# EAGLE library part AG6200 (library kursach_final)
ag6200
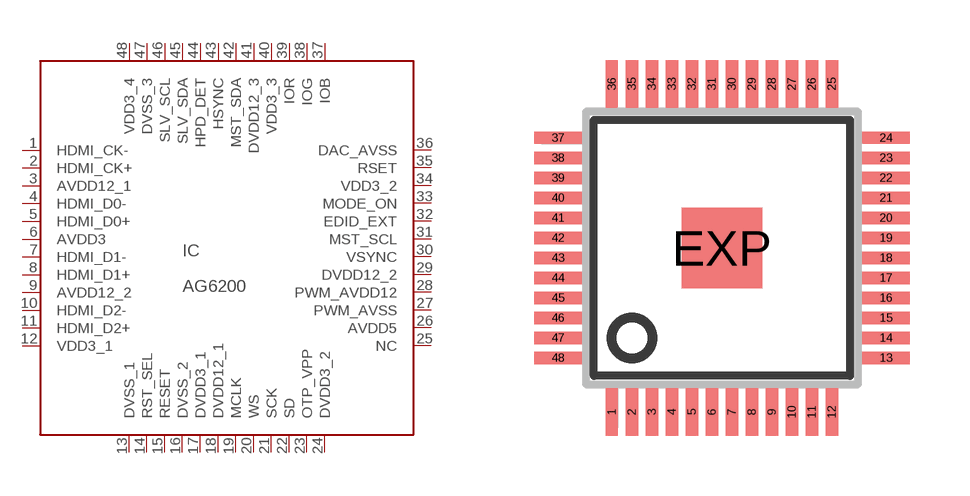
[diagram p7: symbol with the pads of PLCC-48; footprint PLCC-48]

Designator prefix IC

## AG6200 (MPN: AD1953YSTZRL7; OC_FARNELL: unknown; OC_NEWARK: 12M8457)  [PLCC-48]
1  HDMI_CK-  in
2  HDMI_CK+  in
3  AVDD12_1  pwr
4  HDMI_D0-  in
5  HDMI_D0+  in
6  AVDD3  pwr
7  HDMI_D1-  in
8  HDMI_D1+  in
9  AVDD12_2  pwr
10  HDMI_D2-  in
11  HDMI_D2+  in
12  VDD3_1  pwr
13  DVSS_1  pwr
14  RST_SEL  in
15  RESET  in
16  DVSS_2  pwr
17  DVDD3_1  pwr
18  DVDD12_1  pwr
19  MCLK  out
20  WS  out
21  SCK  out
22  SD  out
23  OTP_VPP  pwr
24  DVDD3_2  pwr
25  NC  nc
26  AVDD5  pwr
27  PWM_AVSS  pwr
28  PWM_AVDD12  pwr
29  DVDD12_2  pwr
30  VSYNC  out
31  MST_SCL
32  EDID_EXT  in
33  MODE_ON  in
34  VDD3_2  pwr
35  RSET  in
36  DAC_AVSS  pwr
37  IOB  out
38  IOG  out
39  IOR  out
40  VDD3_3  pwr
41  DVDD12_3  pwr
42  MST_SDA
43  HSYNC  out
44  HPD_DET
45  SLV_SDA
46  SLV_SCL
47  DVSS_3  pwr
48  VDD3_4  pwr

## Footprint PLCC-48 (pad centres in mm)
TQFP48 7x7 Thin Plastic Quad Flat Package, Exposed Pad, TQFP/EP Source: www.analog.com/UploadedFiles/Data_Sheets/33830397585263AD9859_0.pdf
smd 0.3 x 1.2: 1 -2.75,-4.1; 2 -2.25,-4.1; 3 -1.75,-4.1; 4 -1.25,-4.1; 5 -0.75,-4.1; 6 -0.25,-4.1; 7 0.25,-4.1; 8 0.75,-4.1; 9 1.25,-4.1; 10 1.75,-4.1; 11 2.25,-4.1; 12 2.75,-4.1; 25 2.75,4.1; 26 2.25,4.1; 27 1.75,4.1; 28 1.25,4.1; 29 0.75,4.1; 30 0.25,4.1; 31 -0.25,4.1; 32 -0.75,4.1; 33 -1.25,4.1; 34 -1.75,4.1; 35 -2.25,4.1; 36 -2.75,4.1
smd 1.2 x 0.3: 13 4.1,-2.75; 14 4.1,-2.25; 15 4.1,-1.75; 16 4.1,-1.25; 17 4.1,-0.75; 18 4.1,-0.25; 19 4.1,0.25; 20 4.1,0.75; 21 4.1,1.25; 22 4.1,1.75; 23 4.1,2.25; 24 4.1,2.75; 37 -4.1,2.75; 38 -4.1,2.25; 39 -4.1,1.75; 40 -4.1,1.25; 41 -4.1,0.75; 42 -4.1,0.25; 43 -4.1,-0.25; 44 -4.1,-0.75; 45 -4.1,-1.25; 46 -4.1,-1.75; 47 -4.1,-2.25; 48 -4.1,-2.75
smd 2 x 2: EXP 0,0